# Altium footprint library Resistors_HP.PcbLib: 37 footprints (part 3 of 3)
Each footprint in its own frame and in the unit in brackets; x right, y up, seen from the top. Pads: shape width x height; smd on the part's side, far side on the other; paste and mask are expansions set on the pad; w line width, h text height; cw(c..) or ccw(c..) is an arc to the next point about the centre after c.
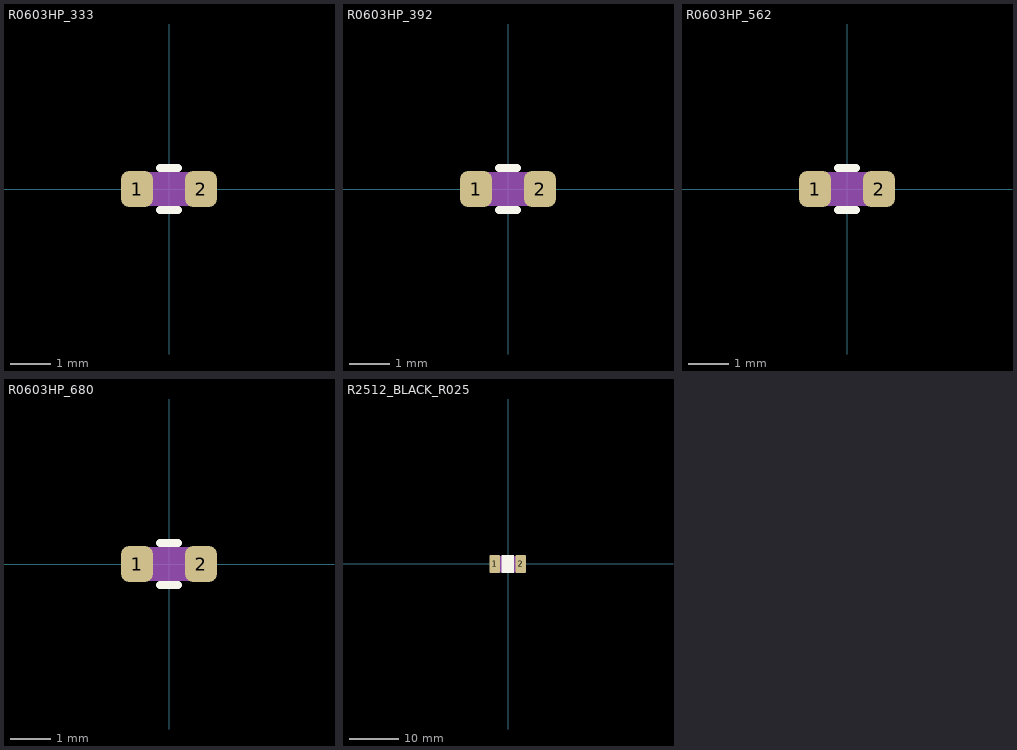
[diagram p2: the footprints below, top view; thin cyan lines are the x and y axes]

## R0603HP_333 [mm] "SMD060316X08MM"
height 0.45
pads (2):
  rrect50% 0.8x0.9 smd mask+0.1: 1(-0.8,0) 2(0.8,0)
Top Overlay:
  lines w0.2: -0.225,-0.525 0.225,-0.525 ; -0.225,0.525 0.225,0.525
Top Assembly:
  lines w0.05: -0.549,-0.395 0.549,-0.395 ; -0.549,0.395 0.549,0.395 ; -0.45,-0.395 -0.45,0.395 ; -0.4,-0.395 -0.4,0.395 ; -0.35,-0.395 -0.35,0.395 ; -0.3,-0.395 -0.3,0.395 ; -0.25,-0.395 -0.25,0.395 ; -0.2,-0.395 -0.2,0.395 ; -0.15,-0.395 -0.15,0.395 ; -0.1,-0.395 -0.1,0.395 ; -0.05,-0.395 -0.05,0.395 ; 0,-0.395 0,0.395 ; 0.05,-0.395 0.05,0.395 ; 0.1,-0.395 0.1,0.395 ; 0.15,-0.395 0.15,0.395 ; 0.2,-0.395 0.2,0.395 ; 0.25,-0.395 0.25,0.395 ; 0.3,-0.395 0.3,0.395 ; 0.35,-0.395 0.35,0.395 ; 0.4,-0.395 0.4,0.395 ; 0.45,-0.395 0.45,0.395 ; -0.55,-0.4 ccw(c-2.125,0) -0.55,0.4 ; -0.55,-0.4 -0.5,-0.4 -0.5,-0.395 -0.5,0.395 -0.5,0.4 -0.55,0.4 ; -0.55,-0.4 -0.8,-0.4 -0.8,0.4 -0.55,0.4 ; 0.55,-0.4 cw(c2.125,0) 0.55,0.4 ; 0.55,-0.4 0.5,-0.4 0.5,-0.395 0.5,0.395 0.5,0.4 0.55,0.4 ; 0.55,-0.4 0.8,-0.4 0.8,0.4 0.55,0.4
  text ".Designator" at -1.801,0.669 h0.8
3D body "R0603_GREEN_333.x_t": height 0.45, standoff 0, extent -0.8,-0.4 0.8,0.4

## R0603HP_392 [mm] "SMD060316X08MM"
height 0.45
pads (2):
  rrect50% 0.8x0.9 smd mask+0.1: 1(-0.8,0) 2(0.8,0)
Top Overlay:
  lines w0.2: -0.225,-0.525 0.225,-0.525 ; -0.225,0.525 0.225,0.525
Top Assembly:
  lines w0.05: -0.549,-0.395 0.549,-0.395 ; -0.549,0.395 0.549,0.395 ; -0.45,-0.395 -0.45,0.395 ; -0.4,-0.395 -0.4,0.395 ; -0.35,-0.395 -0.35,0.395 ; -0.3,-0.395 -0.3,0.395 ; -0.25,-0.395 -0.25,0.395 ; -0.2,-0.395 -0.2,0.395 ; -0.15,-0.395 -0.15,0.395 ; -0.1,-0.395 -0.1,0.395 ; -0.05,-0.395 -0.05,0.395 ; 0,-0.395 0,0.395 ; 0.05,-0.395 0.05,0.395 ; 0.1,-0.395 0.1,0.395 ; 0.15,-0.395 0.15,0.395 ; 0.2,-0.395 0.2,0.395 ; 0.25,-0.395 0.25,0.395 ; 0.3,-0.395 0.3,0.395 ; 0.35,-0.395 0.35,0.395 ; 0.4,-0.395 0.4,0.395 ; 0.45,-0.395 0.45,0.395 ; -0.55,-0.4 ccw(c-2.125,0) -0.55,0.4 ; -0.55,-0.4 -0.8,-0.4 -0.8,0.4 -0.55,0.4 ; -0.55,-0.4 -0.5,-0.4 -0.5,-0.395 -0.5,0.395 -0.5,0.4 -0.55,0.4 ; 0.55,-0.4 cw(c2.125,0) 0.55,0.4 ; 0.55,-0.4 0.8,-0.4 0.8,0.4 0.55,0.4 ; 0.55,-0.4 0.5,-0.4 0.5,-0.395 0.5,0.395 0.5,0.4 0.55,0.4
  text ".Designator" at -1.801,0.669 h0.8
3D body "R0603_GREEN_392.x_t": height 0.45, standoff 0, extent -0.8,-0.4 0.8,0.4

## R0603HP_562 [mm] "SMD060316X08MM"
height 0.45
pads (2):
  rrect50% 0.8x0.9 smd mask+0.1: 1(-0.8,0) 2(0.8,0)
Top Overlay:
  lines w0.2: -0.225,-0.525 0.225,-0.525 ; -0.225,0.525 0.225,0.525
Top Assembly:
  lines w0.05: -0.549,-0.395 0.549,-0.395 ; -0.549,0.395 0.549,0.395 ; -0.45,-0.395 -0.45,0.395 ; -0.4,-0.395 -0.4,0.395 ; -0.35,-0.395 -0.35,0.395 ; -0.3,-0.395 -0.3,0.395 ; -0.25,-0.395 -0.25,0.395 ; -0.2,-0.395 -0.2,0.395 ; -0.15,-0.395 -0.15,0.395 ; -0.1,-0.395 -0.1,0.395 ; -0.05,-0.395 -0.05,0.395 ; 0,-0.395 0,0.395 ; 0.05,-0.395 0.05,0.395 ; 0.1,-0.395 0.1,0.395 ; 0.15,-0.395 0.15,0.395 ; 0.2,-0.395 0.2,0.395 ; 0.25,-0.395 0.25,0.395 ; 0.3,-0.395 0.3,0.395 ; 0.35,-0.395 0.35,0.395 ; 0.4,-0.395 0.4,0.395 ; 0.45,-0.395 0.45,0.395 ; -0.55,-0.4 ccw(c-2.125,0) -0.55,0.4 ; -0.55,-0.4 -0.8,-0.4 -0.8,0.4 -0.55,0.4 ; -0.55,-0.4 -0.5,-0.4 -0.5,-0.395 -0.5,0.395 -0.5,0.4 -0.55,0.4 ; 0.55,-0.4 cw(c2.125,0) 0.55,0.4 ; 0.55,-0.4 0.8,-0.4 0.8,0.4 0.55,0.4 ; 0.55,-0.4 0.5,-0.4 0.5,-0.395 0.5,0.395 0.5,0.4 0.55,0.4
  text ".Designator" at -1.801,0.669 h0.8
3D body "R0603_GREEN_562.x_t": height 0.45, standoff 0, extent -0.8,-0.4 0.8,0.4

## R0603HP_680 [mm] "SMD060316X08MM"
height 0.45
pads (2):
  rrect50% 0.8x0.9 smd mask+0.1: 1(-0.8,0) 2(0.8,0)
Top Overlay:
  lines w0.2: -0.225,-0.525 0.225,-0.525 ; -0.225,0.525 0.225,0.525
Top Assembly:
  lines w0.05: -0.549,-0.395 0.549,-0.395 ; -0.549,0.395 0.549,0.395 ; -0.45,-0.395 -0.45,0.395 ; -0.4,-0.395 -0.4,0.395 ; -0.35,-0.395 -0.35,0.395 ; -0.3,-0.395 -0.3,0.395 ; -0.25,-0.395 -0.25,0.395 ; -0.2,-0.395 -0.2,0.395 ; -0.15,-0.395 -0.15,0.395 ; -0.1,-0.395 -0.1,0.395 ; -0.05,-0.395 -0.05,0.395 ; 0,-0.395 0,0.395 ; 0.05,-0.395 0.05,0.395 ; 0.1,-0.395 0.1,0.395 ; 0.15,-0.395 0.15,0.395 ; 0.2,-0.395 0.2,0.395 ; 0.25,-0.395 0.25,0.395 ; 0.3,-0.395 0.3,0.395 ; 0.35,-0.395 0.35,0.395 ; 0.4,-0.395 0.4,0.395 ; 0.45,-0.395 0.45,0.395 ; -0.55,-0.4 ccw(c-2.125,0) -0.55,0.4 ; -0.55,-0.4 -0.5,-0.4 -0.5,-0.395 -0.5,0.395 -0.5,0.4 -0.55,0.4 ; -0.55,-0.4 -0.8,-0.4 -0.8,0.4 -0.55,0.4 ; 0.55,-0.4 cw(c2.125,0) 0.55,0.4 ; 0.55,-0.4 0.5,-0.4 0.5,-0.395 0.5,0.395 0.5,0.4 0.55,0.4 ; 0.55,-0.4 0.8,-0.4 0.8,0.4 0.55,0.4
  text ".Designator" at -1.801,0.669 h0.8
3D body "R0603_GREEN_680.x_t": height 0.45, standoff 0, extent -0.8,-0.4 0.8,0.4

## R2512_BLACK_R025 [mm] "Resistor 2512, L = 6.35mm, W = 3.18mm"
height 0.64
pads (2):
  rrect20% 2.1x3.68 smd paste-3: 1(-2.7,0) 2(2.6,0)
Top Overlay:
  rectangle: -1.35,-1.8 1.25,1.8
Top Paste:
  region: -1.85,-1.1 -2.55,-1.1 -2.55,-1.8 -1.85,-1.8
  rectangle: -3.5,-1.8 -2.8,-1.1
  region: -1.85,-0.15 -2.55,-0.15 -2.55,-0.85 -1.85,-0.85
  rectangle: -3.5,-0.85 -2.8,-0.15
  region: -1.85,0.85 -2.55,0.85 -2.55,0.15 -1.85,0.15
  rectangle: -3.5,0.15 -2.8,0.85
  region: -1.85,1.8 -2.55,1.8 -2.55,1.1 -1.85,1.1
  rectangle: -3.5,1.1 -2.8,1.8
  region: 3.45,-1.1 2.75,-1.1 2.75,-1.8 3.45,-1.8
  rectangle: 1.8,-1.8 2.5,-1.1
  region: 3.45,-0.15 2.75,-0.15 2.75,-0.85 3.45,-0.85
  rectangle: 1.8,-0.85 2.5,-0.15
  region: 3.45,0.85 2.75,0.85 2.75,0.15 3.45,0.15
  rectangle: 1.8,0.15 2.5,0.85
  region: 3.45,1.8 2.75,1.8 2.75,1.1 3.45,1.1
  rectangle: 1.8,1.1 2.5,1.8
Top Assembly:
  lines w0.05: -2.414,-1.585 2.414,-1.585 ; -2.414,1.585 2.414,1.585 ; -2.384,-1.435 2.399,-1.435 ; -2.384,1.435 2.399,1.435 ; -2.35,-1.435 -2.35,-0.835 ; -2.35,0.835 -2.35,1.435 ; -2.3,-1.435 -2.3,1.435 ; -2.25,-1.435 -2.25,1.435 ; -2.2,-1.435 -2.2,1.435 ; -2.15,-1.435 -2.15,1.435 ; -2.1,-1.435 -2.1,1.435 ; -2.05,-1.435 -2.05,1.435 ; -2,-1.435 -2,1.435 ; -1.95,-1.435 -1.95,1.435 ; -1.9,-1.435 -1.9,1.435 ; -1.85,-1.435 -1.85,1.435 ; -1.8,-1.435 -1.8,1.435 ; -1.75,-1.435 -1.75,1.435 ; -1.7,-1.435 -1.7,1.435 ; -1.65,-1.435 -1.65,1.435 ; -1.6,-1.435 -1.6,1.435 ; -1.55,-1.435 -1.55,1.435 ; -1.5,-1.435 -1.5,1.435 ; -1.45,-1.435 -1.45,1.435 ; -1.4,-1.435 -1.4,1.435 ; -1.35,-1.435 -1.35,1.435 ; -1.3,-1.435 -1.3,1.435 ; -1.25,-1.435 -1.25,1.435 ; -1.2,-1.435 -1.2,1.435 ; -1.15,-1.435 -1.15,1.435 ; -1.1,-1.435 -1.1,1.435 ; -1.05,-1.435 -1.05,1.435 ; -1,-1.435 -1,1.435 ; -0.95,-1.435 -0.95,1.435 ; -0.9,-1.435 -0.9,1.435 ; -0.85,-1.435 -0.85,1.435 ; -0.8,-1.435 -0.8,1.435 ; -0.75,-1.435 -0.75,1.435 ; -0.7,-1.435 -0.7,1.435 ; -0.65,-1.435 -0.65,1.435 ; -0.6,-1.435 -0.6,1.435 ; -0.55,-1.435 -0.55,1.435 ; -0.5,-1.435 -0.5,1.435 ; -0.45,-1.435 -0.45,1.435 ; -0.4,-1.435 -0.4,1.435 ; -0.35,-1.435 -0.35,1.435 ; -0.3,-1.435 -0.3,1.435 ; -0.25,-1.435 -0.25,1.435 ; -0.2,-1.435 -0.2,1.435 ; -0.15,-1.435 -0.15,1.435 ; -0.1,-1.435 -0.1,1.435 ; -0.05,-1.435 -0.05,1.435 ; 0,-1.435 0,1.435 ; 0.05,-1.435 0.05,1.435 ; 0.1,-1.435 0.1,1.435 ; 0.15,-1.435 0.15,1.435 ; 0.2,-1.435 0.2,1.435 ; 0.25,-1.435 0.25,1.435 ; 0.3,-1.435 0.3,1.435 ; 0.35,-1.435 0.35,1.435 ; 0.4,-1.435 0.4,1.435 ; 0.45,-1.435 0.45,1.435 ; 0.5,-1.435 0.5,1.435 ; 0.55,-1.435 0.55,1.435 ; 0.6,-1.435 0.6,1.435 ; 0.65,-1.435 0.65,1.435 ; 0.7,-1.435 0.7,1.435 ; 0.75,-1.435 0.75,1.435 ; 0.8,-1.435 0.8,1.435 ; 0.85,-1.435 0.85,1.435 ; 0.9,-1.435 0.9,1.435 ; 0.95,-1.435 0.95,1.435 ; 1,-1.435 1,1.435 ; 1.05,-1.435 1.05,1.435 ; 1.1,-1.435 1.1,1.435 ; 1.15,-1.435 1.15,1.435 ; 1.2,-1.435 1.2,1.435 ; 1.25,-1.435 1.25,1.435 ; 1.3,-1.435 1.3,1.435 ; 1.35,-1.435 1.35,1.435 ; 1.4,-1.435 1.4,1.435 ; 1.45,-1.435 1.45,1.435 ; 1.5,-1.435 1.5,1.435 ; 1.55,-1.435 1.55,1.435 ; 1.6,-1.435 1.6,1.435 ; 1.65,-1.435 1.65,1.435 ; 1.7,-1.435 1.7,1.435 ; 1.75,-1.435 1.75,1.435 ; 1.8,-1.435 1.8,1.435 ; 1.85,-1.435 1.85,1.435 ; 1.9,-1.435 1.9,1.435 ; 1.95,-1.435 1.95,1.435 ; 2,-1.435 2,1.435 ; 2.05,-1.435 2.05,1.435 ; 2.1,-1.435 2.1,1.435 ; 2.15,-1.435 2.15,1.435 ; 2.2,-1.435 2.2,1.435 ; 2.25,-1.435 2.25,1.435 ; 2.3,-1.435 2.3,1.435 ; 2.35,-1.435 2.35,-0.835 ; 2.35,0.835 2.35,1.435 ; -3.175,-1.59 -3.175,1.59 -2.415,1.59 cw(c-16.415,0) -2.415,-1.59 -3.175,-1.59 ; 2.415,-1.59 cw(c16.415,0) 2.415,1.59 3.175,1.59 3.175,-1.59 2.415,-1.59
  text ".Designator" at -3.378,2.161 h1.5
3D body "PE2512_1W_BLACK_R025.x_t": height 0.64, standoff 0, extent -3.175,-1.59 3.175,1.59